# Altium schematic symbol library nail_detector.SchLib: 1 symbol
Pins are listed as number, name and electrical type; pins without a type are passive.

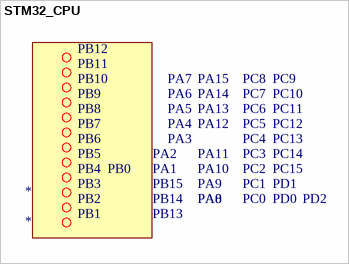
[diagram p0: symbol STM32_CPU]

## STM32_CPU
designator *
text: PB12; PB11; PB10; PA7; PA15; PC8; PC9; PB9; PA6; PA14; PC7; PC10; PB8; PA5; PA13; PC6; PC11; PB7; PA4; PA12; PC5; PC12; PB6; PA3; PC4; PC13; PB5; PA2; PA11; PC3; PC14; PB4; PB0; PA1; PA10; PC2; PC15; PB3; PB15; PA9; PC1; PD1; PB2; PB14; PA8; PA0; PC0; PD0; PD2; PB1; PB13